# Altium schematic symbol library xfmr_5.Schlib: 1 symbol
Pins are listed as number, name and electrical type; pins without a type are passive.

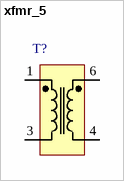
[diagram p0: symbol xfmr_5]

## xfmr_5
designator T?  (value not drawn)
Pulse Transformer
pins: 1, 2 NC hidden, 3, 4, 5 NC hidden, 6